# Altium footprint library SDRdrum_Arty_RevA.PcbLib: 17 footprints (part 1 of 2)
Each footprint in its own frame and in the unit in brackets; x right, y up, seen from the top. Pads: shape width x height; smd on the part's side, far side on the other; paste and mask are expansions set on the pad; w line width, h text height; cw(c..) or ccw(c..) is an arc to the next point about the centre after c.
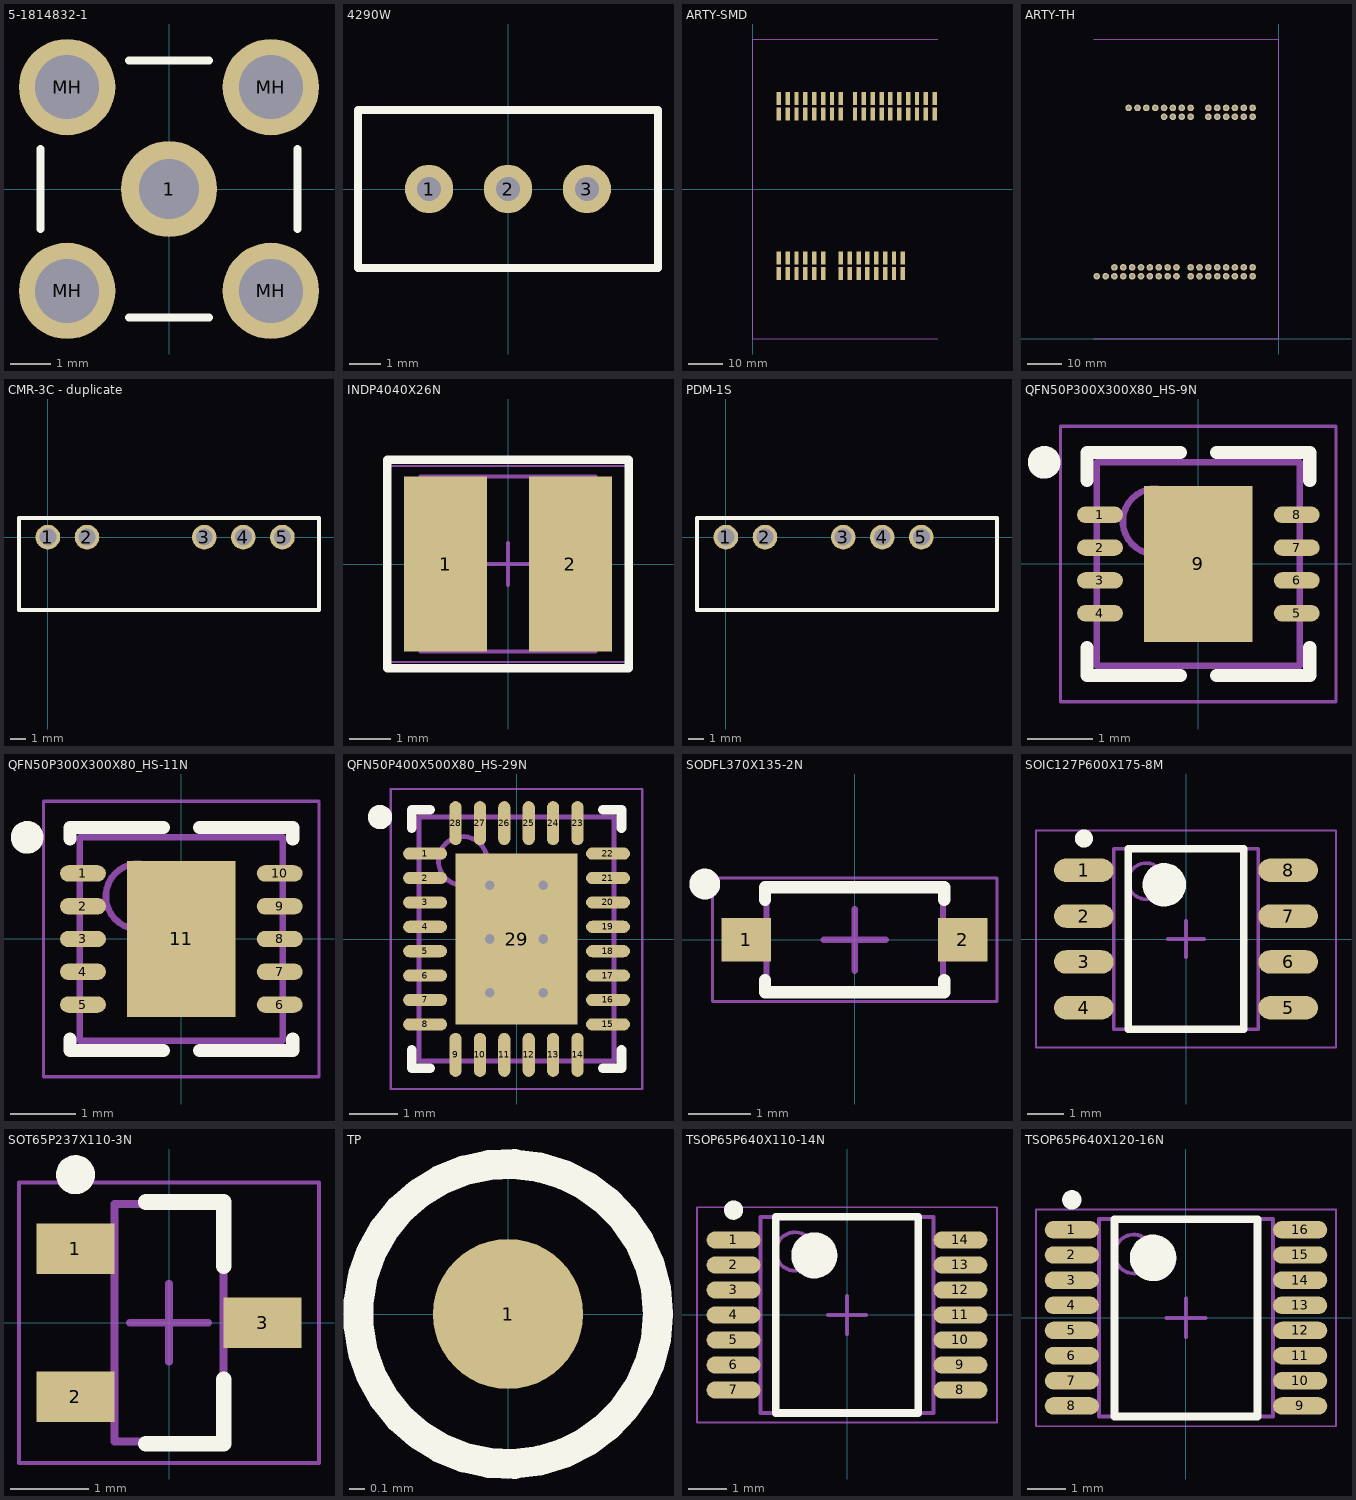
[diagram p0: the footprints below, top view; thin cyan lines are the x and y axes]

## 5-1814832-1 [mm]
pads (5):
  round 2.4 hole 1.5: 1(0,0)
  round 2.4 hole 1.6: MH(-2.54,-2.54) MH(-2.54,2.54) MH(2.54,-2.54) MH(2.54,2.54)
Top Overlay:
  lines w0.2: -3.2,-1 -3.2,1 ; -1,-3.2 1,-3.2 ; -1,3.2 1,3.2 ; 3.2,-1 3.2,1
3D body "c-5-1814832-1-b-3d.stp": height 9.5, standoff -4, extent -3.2,-3.2 3.2,3.2

## 4290W [mil]
pads (3):
  round 60 hole 30: 1(-98.43,0) 2(0,0) 3(98.43,0)
Top Overlay:
  lines w10: -187.01,-98.43 -187.01,98.43 187.01,98.43 187.01,-98.43 -187.01,-98.43
3D body: height 393.7, standoff 0, extent -187.01,-98.43 187.01,98.43

## ARTY-SMD [mm]
pads (64):
  rect 1.27x3.68 smd: 1(43.008,-24.205) 2(40.468,-24.205) 3(37.928,-24.205) 4(35.388,-24.205) 5(32.848,-24.205) 6(30.308,-24.205) 7(27.768,-24.205) 8(25.228,-24.205) 9(20.148,-24.205) 10(17.608,-24.205) 11(15.068,-24.205) 12(12.528,-24.205) 13(9.988,-24.205) 14(7.448,-24.205) 15(32.848,-19.765) 16(30.308,-19.765) 17(27.768,-19.765) 18(25.228,-19.765) 19(20.148,-19.765) 20(17.608,-19.765) 21(15.068,-19.765) 22(12.528,-19.765) 23(9.988,-19.765) 24(7.448,-19.765) 25(47.072,21.515) 26(44.532,21.515) 27(41.992,21.515) 28(39.452,21.515) 29(36.912,21.515) 30(34.372,21.515) 31(31.832,21.515) 32(29.292,21.515) 33(25.228,21.515) 34(22.688,21.515) 35(20.148,21.515) 36(17.608,21.515) 37(15.068,21.515) 38(12.528,21.515) 39(9.988,21.515) 40(7.448,21.515) 41(52.152,25.955) 42(49.612,25.955) 43(47.072,25.955) 44(44.532,25.955) 45(41.992,25.955) 46(39.452,25.955) 47(36.912,25.955) 48(34.372,25.955) 49(31.832,25.955) 50(29.292,25.955) 51(25.228,25.955) 52(22.688,25.955) 53(20.148,25.955) 54(17.608,25.955) 55(15.068,25.955) 56(12.528,25.955) 57(9.988,25.955) 58(7.448,25.955) NC(35.388,-19.765) NC(37.928,-19.765) NC(40.468,-19.765) NC(43.008,-19.765) NC(49.612,21.515) NC(52.152,21.515)
Mechanical 1:
  lines w0.2: 53,-43 0,-43 0,43 53,43
3D body "015912200.stp": height 9.74, standoff 0.09, extent 28.022,20.243 53.422,27.228
3D body "015912120.stp": height 9.74, standoff 0.09, extent 6.178,-25.477 21.418,-18.492
3D body "015912160.stp": height 9.74, standoff 0.09, extent 6.178,20.243 26.498,27.228
3D body "015912160.stp": height 9.74, standoff 0.09, extent 23.958,-25.477 44.278,-18.492

## ARTY-TH [mm]
pads (58):
  round 1.905 hole 1.016: 1(-43,66.26) 2(-40.46,66.26) 3(-37.92,66.26) 4(-35.38,66.26) 5(-32.84,66.26) 6(-30.3,66.26) 7(-27.76,66.26) 8(-25.22,66.26) 9(-20.14,66.26) 10(-17.6,66.26) 11(-15.06,66.26) 12(-12.52,66.26) 13(-9.98,66.26) 14(-7.44,66.26) 15(-32.84,63.72) 16(-30.3,63.72) 17(-27.76,63.72) 18(-25.22,63.72) 19(-20.14,63.72) 20(-17.6,63.72) 21(-15.06,63.72) 22(-12.52,63.72) 23(-9.98,63.72) 24(-7.44,63.72) 25(-47.064,20.54) 26(-44.524,20.54) 27(-41.984,20.54) 28(-39.444,20.54) 29(-36.904,20.54) 30(-34.364,20.54) 31(-31.824,20.54) 32(-29.284,20.54) 33(-25.22,20.54) 34(-22.68,20.54) 35(-20.14,20.54) 36(-17.6,20.54) 37(-15.06,20.54) 38(-12.52,20.54) 39(-9.98,20.54) 40(-7.44,20.54) 41(-52.144,18) 42(-49.604,18) 43(-47.064,18) 44(-44.524,18) 45(-41.984,18) 46(-39.444,18) 47(-36.904,18) 48(-34.364,18) 49(-31.824,18) 50(-29.284,18) 51(-25.22,18) 52(-22.68,18) 53(-20.14,18) 54(-17.6,18) 55(-15.06,18) 56(-12.52,18) 57(-9.98,18) 58(-7.44,18)
Mechanical 13:
  lines w0.2: -53,0 0,0 0,86 -53,86

## CMR-3C - duplicate [mm]
pads (5):
  round 1.6 hole 1.1: 1(0,0) 2(2.54,0) 3(10.16,0) 4(12.7,0) 5(15.24,0)
Top Overlay:
  lines w0.254: -1.88,-4.75 -1.88,1.25 17.62,1.25 17.62,-4.75 -1.88,-4.75
3D body: height 10, standoff 0, extent -2,-4.75 17.62,1.25

## INDP4040X26N [mm] "Precision Wire Wound Inductor, 2-Leads, Body 4.00x4.00mm, IPC Medium Density"
height 2.6
pads (2):
  rect 2x4.2 smd: 1(-1.5,0) 2(1.5,0)
Top Overlay:
  lines w0.2: -2.9,-2.5 2.9,-2.5 2.9,2.5 -2.9,2.5 -2.9,-2.5
Mechanical 13:
  lines w0.1: -2.1,-2.1 -2.1,2.1 2.1,2.1 2.1,-2.1 -2.1,-2.1
Mechanical 15:
  lines w0.05: -2.925,-2.35 -2.925,2.35 2.925,2.35 2.925,-2.35 -2.925,-2.35
  lines w0.1: -0.5,0 0.5,0 ; 0,-0.5 0,0.5
3D body "INDP4040X26N.step": height 2.7, standoff 0, extent -2.1,-2 2.1,2

## PDM-1S [mm]
pads (5):
  round 1.6 hole 1.1: 1(0,0) 2(2.54,0) 3(7.62,0) 4(10.16,0) 5(12.7,0)
Top Overlay:
  lines w0.254: -1.88,-4.75 -1.88,1.25 17.62,1.25 17.62,-4.75 -1.88,-4.75
3D body: height 10, standoff 0, extent -2,-4.75 17.62,1.25

## QFN50P300X300X80_HS-9N [mm] "QFN, 8-Leads, Body 3.00x3.00mm, Pitch 0.50mm, Thermal Pad 1.65x2.38mm, IPC Medium Density"
height 0.8
pads (9):
  oval 0.7x0.25 smd: 1(-1.5,0.75) 2(-1.5,0.25) 3(-1.5,-0.25) 4(-1.5,-0.75) 5(1.5,-0.75) 6(1.5,-0.25) 7(1.5,0.25) 8(1.5,0.75)
  rect 1.65x2.38 smd: 9(0,0)
Top Overlay:
  circle w0.25: c-2.35,1.55 r0.125
  lines w0.2: -1.7,-1.275 -1.7,-1.7 -0.275,-1.7 ; -1.7,1.275 -1.7,1.7 -0.275,1.7 ; 0.275,-1.7 1.7,-1.7 1.7,-1.275 ; 0.275,1.7 1.7,1.7 1.7,1.275
Mechanical 13:
  circle w0.1: c-0.65,0.65 r0.5
  lines w0.1: -1.55,-1.55 -1.55,1.55 1.55,1.55 1.55,-1.55 -1.55,-1.55
Mechanical 15:
  lines w0.05: -2.1,-2.1 -2.1,2.1 2.1,2.1 2.1,-2.1 -2.1,-2.1
  lines w0.1: -0.5,0 0.5,0 ; 0,-0.5 0,0.5
3D body "QFN50P300X300X80_HS-9N-2.step": height 0.8, standoff 0, extent -1.6,-1.55 1.6,1.55

## QFN50P300X300X80_HS-11N [mm] "QFN, 10-Leads, Body 3.00x3.00mm, Pitch 0.50mm, Thermal Pad 1.65x2.38mm, IPC Medium Density"
height 0.8
pads (11):
  oval 0.7x0.25 smd: 1(-1.5,1) 2(-1.5,0.5) 3(-1.5,0) 4(-1.5,-0.5) 5(-1.5,-1) 6(1.5,-1) 7(1.5,-0.5) 8(1.5,0) 9(1.5,0.5) 10(1.5,1)
  rect 1.65x2.38 smd: 11(0,0)
Top Overlay:
  circle w0.25: c-2.35,1.55 r0.125
  lines w0.2: -1.7,-1.525 -1.7,-1.7 -0.275,-1.7 ; -1.7,1.525 -1.7,1.7 -0.275,1.7 ; 0.275,-1.7 1.7,-1.7 1.7,-1.525 ; 0.275,1.7 1.7,1.7 1.7,1.525
Mechanical 13:
  circle w0.1: c-0.65,0.65 r0.5
  lines w0.1: -1.55,-1.55 -1.55,1.55 1.55,1.55 1.55,-1.55 -1.55,-1.55
Mechanical 15:
  lines w0.05: -2.1,-2.1 -2.1,2.1 2.1,2.1 2.1,-2.1 -2.1,-2.1
  lines w0.1: -0.5,0 0.5,0 ; 0,-0.5 0,0.5
3D body "QFN50P300X300X80_HS-11N.step": height 0.8, standoff 0, extent -1.6,-1.55 1.6,1.55

## QFN50P400X500X80_HS-29N [mm] "QFN, 28-Leads, Body 4.00x5.00mm, Pitch 0.50mm, Thermal Pad 2.50x3.50mm, IPC Medium Density"
height 0.8
pads (29):
  oval 0.9x0.25 smd: 1(-1.875,1.75) 2(-1.875,1.25) 3(-1.875,0.75) 4(-1.875,0.25) 5(-1.875,-0.25) 6(-1.875,-0.75) 7(-1.875,-1.25) 8(-1.875,-1.75) 15(1.875,-1.75) 16(1.875,-1.25) 17(1.875,-0.75) 18(1.875,-0.25) 19(1.875,0.25) 20(1.875,0.75) 21(1.875,1.25) 22(1.875,1.75)
  oval 0.25x0.9 smd: 9(-1.25,-2.375) 10(-0.75,-2.375) 11(-0.25,-2.375) 12(0.25,-2.375) 13(0.75,-2.375) 14(1.25,-2.375) 23(1.25,2.375) 24(0.75,2.375) 25(0.25,2.375) 26(-0.25,2.375) 27(-0.75,2.375) 28(-1.25,2.375)
  rect 2.5x3.5 smd: 29(0,0)
via 0.55,-1.1 diameter 0.5 hole 0.2
via -0.55,-1.1 diameter 0.5 hole 0.2
via 0.55,0 diameter 0.5 hole 0.2
via -0.55,0 diameter 0.5 hole 0.2
via 0.55,1.1 diameter 0.5 hole 0.2
via -0.55,1.1 diameter 0.5 hole 0.2
Top Overlay:
  circle w0.25: c-2.8,2.5 r0.125
  lines w0.2: -2.15,-2.275 -2.15,-2.65 -1.775,-2.65 ; -2.15,2.275 -2.15,2.65 -1.775,2.65 ; 1.775,-2.65 2.15,-2.65 2.15,-2.275 ; 1.775,2.65 2.15,2.65 2.15,2.275
Mechanical 13:
  circle w0.1: c-1.1,1.6 r0.5
  lines w0.1: -2,-2.5 2,-2.5 2,2.5 -2,2.5 -2,-2.5
Mechanical 15:
  lines w0.05: -2.575,-3.075 2.575,-3.075 2.575,3.075 -2.575,3.075 -2.575,-3.075
  lines w0.1: -0.5,0 0.5,0 ; 0,-0.5 0,0.5
3D body: height 0.8, standoff 0.05, extent -2,-2.5 2,2.5

## SODFL370X135-2N [mm] "SODFL, 2-Leads, Body 1.55x3.70mm, IPC Medium Density"
height 1.35
pads (2):
  rect 0.8x0.7 smd: 1(-1.75,0) 2(1.75,0)
Top Overlay:
  circle w0.25: c-2.425,0.9 r0.125
  lines w0.2: -1.45,-0.65 -1.45,-0.85 1.45,-0.85 1.45,-0.65 ; -1.45,0.65 -1.45,0.85 1.45,0.85 1.45,0.65
Mechanical 13:
  lines w0.1: -1.425,-0.85 1.425,-0.85 1.425,0.85 -1.425,0.85 -1.425,-0.85
Mechanical 15:
  lines w0.05: -2.3,-1 2.3,-1 2.3,1 -2.3,1 -2.3,-1
  lines w0.1: -0.5,0 0.5,0 ; 0,-0.5 0,0.5
3D body "SODFL370X135-2N.step": height 1.35, standoff 0, extent -1.85,-0.85 1.85,0.85

## SOIC127P600X175-8M [mm] "SOIC, 8-Leads, Body 4.90x3.90mm, Pitch 1.27mm, IPC Low Density"
height 1.75
pads (8):
  oval 1.65x0.65 smd: 1(-2.825,1.905) 2(-2.825,0.635) 3(-2.825,-0.635) 4(-2.825,-1.905) 5(2.825,-1.905) 6(2.825,-0.635) 7(2.825,0.635) 8(2.825,1.905)
Top Overlay:
  circle w0.25: c-2.825,2.78 r0.125
  circle w0.6: c-0.6,1.5 r0.3
  lines w0.2: -1.6,-2.5 -1.6,2.5 1.6,2.5 1.6,-2.5 -1.6,-2.5
Mechanical 13:
  circle w0.1: c-1.1,1.6 r0.5
  lines w0.1: -2,-2.5 -2,2.5 2,2.5 2,-2.5 -2,-2.5
Mechanical 15:
  lines w0.05: -4.15,-3 -4.15,3 4.15,3 4.15,-3 -4.15,-3
  lines w0.1: -0.5,0 0.5,0 ; 0,-0.5 0,0.5
3D body "SOIC127P600X175-8M.step": height 1.75, standoff 0, extent -3,-2.5 3,2.5

## SOT65P237X110-3N [mm] "SOT23, 3-Leads, Body 2.86x2.37mm, Pitch 0.65mm, IPC Medium Density"
height 1.1
pads (3):
  rect 1x0.65 smd: 1(-1.2,0.95) 2(-1.2,-0.95) 3(1.2,0)
Top Overlay:
  circle w0.25: c-1.2,1.9 r0.125
  lines w0.2: -0.3,-1.55 0.7,-1.55 0.7,-0.725 ; -0.3,1.55 0.7,1.55 0.7,0.725
Mechanical 13:
  lines w0.1: -0.7,-1.525 0.7,-1.525 0.7,1.525 -0.7,1.525 -0.7,-1.525
Mechanical 15:
  lines w0.05: -1.925,-1.8 1.925,-1.8 1.925,1.8 -1.925,1.8 -1.925,-1.8
  lines w0.1: -0.5,0 0.5,0 ; 0,-0.5 0,0.5
3D body "SOT65P237X110-3N.step": height 1.1, standoff 0, extent -1.32,-1.525 1.32,1.525

## TP [mm]
pads (1):
  round 1 smd: 1(0,0)
Top Overlay:
  circle w0.2: c0,0 r1

## TSOP65P640X110-14N [mm] "TSOP, 14-Leads, Body 5.00x4.40mm, Pitch 0.65mm, IPC Medium Density"
height 1.1
pads (14):
  oval 1.4x0.45 smd: 1(-2.95,1.95) 2(-2.95,1.3) 3(-2.95,0.65) 4(-2.95,0) 5(-2.95,-0.65) 6(-2.95,-1.3) 7(-2.95,-1.95) 8(2.95,-1.95) 9(2.95,-1.3) 10(2.95,-0.65) 11(2.95,0) 12(2.95,0.65) 13(2.95,1.3) 14(2.95,1.95)
Top Overlay:
  circle w0.6: c-0.85,1.55 r0.3
  circle w0.25: c-2.95,2.725 r0.125
  lines w0.2: -1.85,-2.55 1.85,-2.55 1.85,2.55 -1.85,2.55 -1.85,-2.55
Mechanical 13:
  circle w0.1: c-1.35,1.65 r0.5
  lines w0.1: -2.25,-2.55 2.25,-2.55 2.25,2.55 -2.25,2.55 -2.25,-2.55
Mechanical 15:
  lines w0.05: -3.9,-2.8 3.9,-2.8 3.9,2.8 -3.9,2.8 -3.9,-2.8
  lines w0.1: -0.5,0 0.5,0 ; 0,-0.5 0,0.5
3D body "TSOP65P640X110-14N.step": height 1.1, standoff 0, extent -3.2,-2.55 3.2,2.55

## TSOP65P640X120-16N [mm] "TSOP, 16-Leads, Body 5.00x4.40mm, Pitch 0.65mm, IPC Medium Density"
height 1.2
pads (16):
  oval 1.4x0.45 smd: 1(-2.95,2.275) 2(-2.95,1.625) 3(-2.95,0.975) 4(-2.95,0.325) 5(-2.95,-0.325) 6(-2.95,-0.975) 7(-2.95,-1.625) 8(-2.95,-2.275) 9(2.95,-2.275) 10(2.95,-1.625) 11(2.95,-0.975) 12(2.95,-0.325) 13(2.95,0.325) 14(2.95,0.975) 15(2.95,1.625) 16(2.95,2.275)
Top Overlay:
  circle w0.6: c-0.85,1.55 r0.3
  circle w0.25: c-2.95,3.05 r0.125
  lines w0.2: -1.85,-2.55 1.85,-2.55 1.85,2.55 -1.85,2.55 -1.85,-2.55
Mechanical 13:
  circle w0.1: c-1.35,1.65 r0.5
  lines w0.1: -2.25,-2.55 2.25,-2.55 2.25,2.55 -2.25,2.55 -2.25,-2.55
Mechanical 15:
  lines w0.05: -3.875,-2.8 3.875,-2.8 3.875,2.8 -3.875,2.8 -3.875,-2.8
  lines w0.1: -0.5,0 0.5,0 ; 0,-0.5 0,0.5
3D body "TSOP65P640X120-16N.step": height 1.2, standoff 0, extent -3.2,-2.55 3.2,2.55